# Altium integrated library TI_Logic_Power_Logic.IntLib: 26 symbols
Pins are listed as number, name and electrical type; pins without a type are passive.

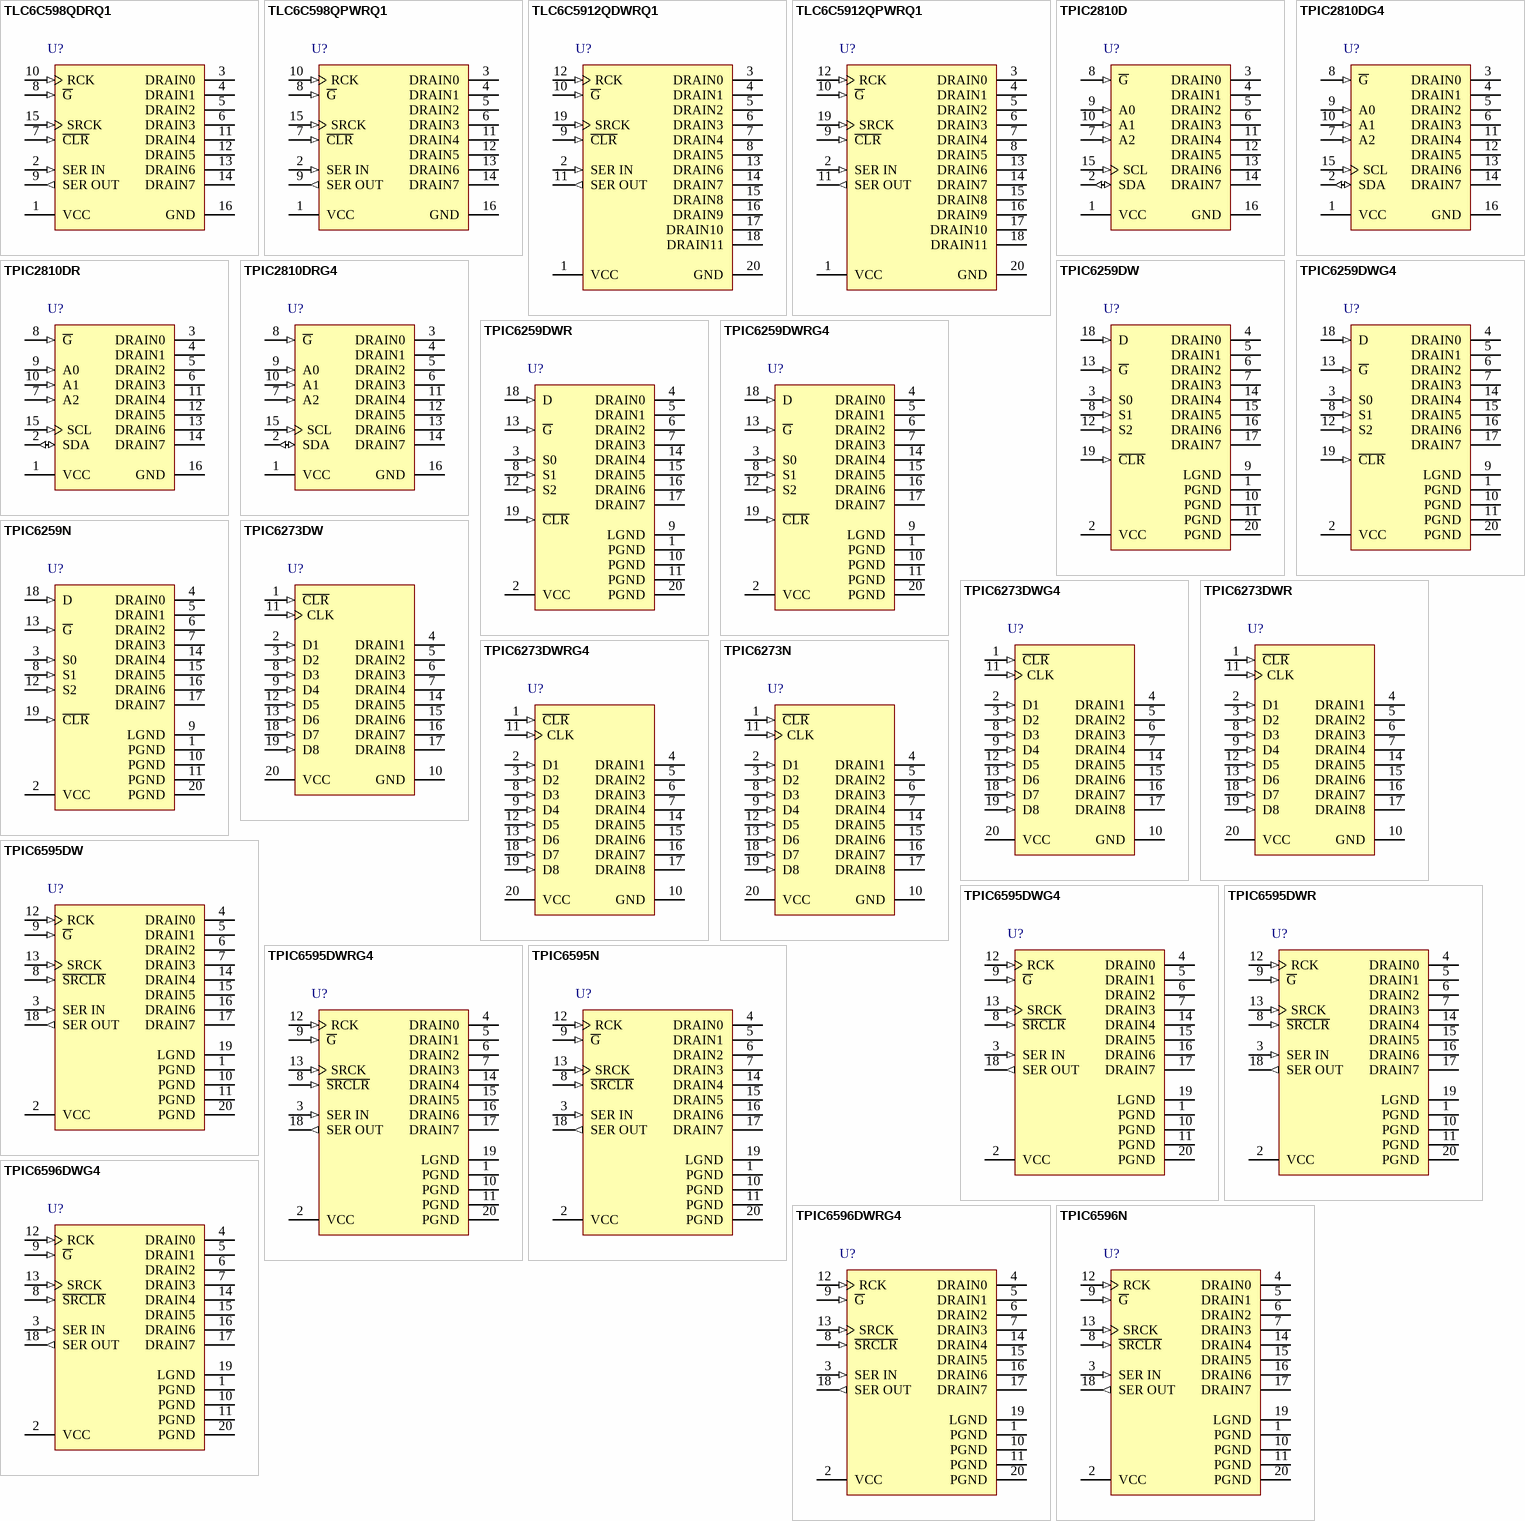
[diagram p0: symbols TLC6C598QDRQ1 to TPIC6596N]

## TLC6C598QDRQ1
designator U?
Automotive Power Logic 8-Bit Shift Register LED Driver, D0016A, LARGE T&R; Generic Part Number: TLC6C598-Q1; Manufacturer: Texas Instruments; PartNumber: TLC6C598QDRQ1; ICC(uA): 88; rDS(on)(Ohms): 7.4; tPLH(ns): 218; VDS(Max)(V): 40; IO(CONT)(A): 0.05; DatasheetVersion: SLIS142B; PackageReference: D0016A; Supplier 1: Mouser; Supplier Part Number 1: 595-TLC6C598QDRQ1; Supplier 2: Digi-Key; Supplier Part Number 2: 296-40592-2-ND; Supplier 3: Digi-Key; Supplier Part Number 3: 296-40592-1-ND; Supplier 4: Digi-Key; Supplier Part Number 4: 296-40592-6-ND; Operating Temperature Range(C): -40 to 125; Rating: Automotive; ComponentLink1Description: Manufacturer URL; ComponentLink1URL: http://www.ti.com/; ComponentLink2Description: Datasheet; ComponentLink2URL: http://www.ti.com/lit/ds/symlink/tlc6c598-q1.pdf
footprint D0016A_N (SOIC, 16-Leads, Body 10x4mm, Pitch 1.27mm, IPC Medium Density)
footprint D0016A_M (SOIC, 16-Leads, Body 10x4mm, Pitch 1.27mm, IPC Low Density)
footprint D0016A_L (SOIC, 16-Leads, Body 10x4mm, Pitch 1.27mm, IPC High Density)
pins: 1 VCC (power) "Power supply", 2 SER IN (in) "Serial data input", 3 DRAIN0 (oc) "Open-drain output", 4 DRAIN1 (oc) "Open-drain output", 5 DRAIN2 (oc) "Open-drain output", 6 DRAIN3 (oc) "Open-drain output", 7 ~{CLR} (in) "Shift register clear, active-low", 8 ~{G} (in) "Output enable, active-low", 9 SER OUT (out) "Serial data output", 10 RCK (in) "Register clock", 11 DRAIN4 (oc) "Open-drain output", 12 DRAIN5 (oc) "Open-drain output", 13 DRAIN6 (oc) "Open-drain output", 14 DRAIN7 (oc) "Open-drain output", 15 SRCK (in) "Shift register clock", 16 GND (power) "Power ground"

## TLC6C598QPWRQ1
designator U?
Automotive Power Logic 8-Bit Shift Register LED Driver, PW0016A, LARGE T&R; Generic Part Number: TLC6C598-Q1; Manufacturer: Texas Instruments; PartNumber: TLC6C598QPWRQ1; ICC(uA): 88; rDS(on)(Ohms): 7.4; tPLH(ns): 218; VDS(Max)(V): 40; IO(CONT)(A): 0.05; DatasheetVersion: SLIS142B; PackageReference: PW0016A; Supplier 1: Mouser; Supplier Part Number 1: 595-TLC6C598QPWRQ1; Supplier 2: Digi-Key; Supplier Part Number 2: 296-36199-2-ND; Supplier 3: Digi-Key; Supplier Part Number 3: 296-36199-1-ND; Supplier 4: Digi-Key; Supplier Part Number 4: 296-36199-6-ND; Operating Temperature Range(C): -40 to 125; Rating: Automotive; ComponentLink1Description: Manufacturer URL; ComponentLink1URL: http://www.ti.com/; ComponentLink2Description: Datasheet; ComponentLink2URL: http://www.ti.com/lit/ds/symlink/tlc6c598-q1.pdf
footprint PW0016A_N (SOP, 16-Leads, Body 5.1x4.5mm, Pitch 0.65mm, IPC Medium Density)
footprint PW0016A_M (SOP, 16-Leads, Body 5.1x4.5mm, Pitch 0.65mm, IPC Low Density)
footprint PW0016A_L (SOP, 16-Leads, Body 5.1x4.5mm, Pitch 0.65mm, IPC High Density)
pins: 1 VCC (power) "Power supply", 2 SER IN (in) "Serial data input", 3 DRAIN0 (oc) "Open-drain output", 4 DRAIN1 (oc) "Open-drain output", 5 DRAIN2 (oc) "Open-drain output", 6 DRAIN3 (oc) "Open-drain output", 7 ~{CLR} (in) "Shift register clear, active-low", 8 ~{G} (in) "Output enable, active-low", 9 SER OUT (out) "Serial data output", 10 RCK (in) "Register clock", 11 DRAIN4 (oc) "Open-drain output", 12 DRAIN5 (oc) "Open-drain output", 13 DRAIN6 (oc) "Open-drain output", 14 DRAIN7 (oc) "Open-drain output", 15 SRCK (in) "Shift register clock", 16 GND (power) "Power ground"

## TLC6C5912QDWRQ1
designator U?
Automotive Power Logic 12-Bit Shift Register LED Driver, DW0020A, LARGE T&R; Generic Part Number: TLC6C5912-Q1; Manufacturer: Texas Instruments; PartNumber: TLC6C5912QDWRQ1; ICC(uA): 130; rDS(on)(Ohms): 7.4; tPLH(ns): 210; VDS(Max)(V): 40; IO(CONT)(A): 0.05; DatasheetVersion: SLIS141A; PackageReference: DW0020A; Supplier 1: Mouser; Supplier Part Number 1: 595-TLC6C5912QDWRQ1; Supplier 2: Digi-Key; Supplier Part Number 2: 296-40591-2-ND; Supplier 3: Digi-Key; Supplier Part Number 3: 296-40591-1-ND; Supplier 4: Digi-Key; Supplier Part Number 4: 296-40591-6-ND; Operating Temperature Range(C): -40 to 125; Rating: Automotive; ComponentLink1Description: Manufacturer URL; ComponentLink1URL: http://www.ti.com/; ComponentLink2Description: Datasheet; ComponentLink2URL: http://www.ti.com/lit/ds/symlink/tlc6c5912-q1.pdf
footprint DW0020A_N (SOIC, 20-Leads, Body 13x7.6mm, Pitch 1.27mm, IPC Medium Density)
footprint DW0020A_M (SOIC, 20-Leads, Body 13x7.6mm, Pitch 1.27mm, IPC Low Density)
footprint DW0020A_L (SOIC, 20-Leads, Body 13x7.6mm, Pitch 1.27mm, IPC High Density)
pins: 1 VCC (power) "Power supply", 2 SER IN (in) "Serial-data input", 3 DRAIN0 (oc) "Open-drain output", 4 DRAIN1 (oc) "Open-drain output", 5 DRAIN2 (oc) "Open-drain output", 6 DRAIN3 (oc) "Open-drain output", 7 DRAIN4 (oc) "Open-drain output", 8 DRAIN5 (oc) "Open-drain output", 9 ~{CLR} (in) "Shift register clear, active-low", 10 ~{G} (in) "Output enable, active-low", 11 SER OUT (out) "Serial-data output", 12 RCK (in) "Register clock", 13 DRAIN6 (oc) "Open-drain output", 14 DRAIN7 (oc) "Open-drain output", 15 DRAIN8 (oc) "Open-drain output", 16 DRAIN9 (oc) "Open-drain output", 17 DRAIN10 (oc) "Open-drain output", 18 DRAIN11 (oc) "Open-drain output", 19 SRCK (in) "Shift-register clock", 20 GND (power) "Power ground"

## TLC6C5912QPWRQ1
designator U?
Automotive Power Logic 12-Bit Shift Register LED Driver, PW0020A, LARGE T&R; Generic Part Number: TLC6C5912-Q1; Manufacturer: Texas Instruments; PartNumber: TLC6C5912QPWRQ1; ICC(uA): 130; rDS(on)(Ohms): 7.4; tPLH(ns): 210; VDS(Max)(V): 40; IO(CONT)(A): 0.05; DatasheetVersion: SLIS141A; PackageReference: PW0020A; Supplier 1: Mouser; Supplier Part Number 1: 595-TLC6C5912QPWRQ1; Supplier 2: Digi-Key; Supplier Part Number 2: 296-39249-2-ND; Supplier 3: Digi-Key; Supplier Part Number 3: 296-39249-1-ND; Supplier 4: Digi-Key; Supplier Part Number 4: 296-39249-6-ND; Operating Temperature Range(C): -40 to 125; Rating: Automotive; ComponentLink1Description: Manufacturer URL; ComponentLink1URL: http://www.ti.com/; ComponentLink2Description: Datasheet; ComponentLink2URL: http://www.ti.com/lit/ds/symlink/tlc6c5912-q1.pdf
footprint PW0020A_N (SOP, 20-Leads, Body 6.6x4.5mm, Pitch 0.65mm, IPC Medium Density)
footprint PW0020A_M (SOP, 20-Leads, Body 6.6x4.5mm, Pitch 0.65mm, IPC Low Density)
footprint PW0020A_L (SOP, 20-Leads, Body 6.6x4.5mm, Pitch 0.65mm, IPC High Density)
pins: 1 VCC (power) "Power supply", 2 SER IN (in) "Serial-data input", 3 DRAIN0 (oc) "Open-drain output", 4 DRAIN1 (oc) "Open-drain output", 5 DRAIN2 (oc) "Open-drain output", 6 DRAIN3 (oc) "Open-drain output", 7 DRAIN4 (oc) "Open-drain output", 8 DRAIN5 (oc) "Open-drain output", 9 ~{CLR} (in) "Shift register clear, active-low", 10 ~{G} (in) "Output enable, active-low", 11 SER OUT (out) "Serial-data output", 12 RCK (in) "Register clock", 13 DRAIN6 (oc) "Open-drain output", 14 DRAIN7 (oc) "Open-drain output", 15 DRAIN8 (oc) "Open-drain output", 16 DRAIN9 (oc) "Open-drain output", 17 DRAIN10 (oc) "Open-drain output", 18 DRAIN11 (oc) "Open-drain output", 19 SRCK (in) "Shift-register clock", 20 GND (power) "Power ground"

## TPIC2810D
designator U?
8-Bit LED Driver with I2C Interface, D0016A, TUBE; Generic Part Number: TPIC2810; Manufacturer: Texas Instruments; PartNumber: TPIC2810D; ICC(uA): 620; IO(PEAK)(A): 0.21; rDS(on)(Ohms): 5; tPLH(ns): 1150; VDS(Max)(V): 40; IO(CONT)(A): 0.1; Rating: Catalog; Priority (type 2): 1; DatasheetVersion: SLIS109A; PackageReference: D0016A; Supplier 1: Mouser; Supplier Part Number 1: 595-TPIC2810D; Supplier 2: Digi-Key; Supplier Part Number 2: 296-13746-5-ND; Operating Temperature Range(C): -40 to 125; ComponentLink1Description: Manufacturer URL; ComponentLink1URL: http://www.ti.com/; ComponentLink2Description: Datasheet; ComponentLink2URL: http://www.ti.com/lit/ds/symlink/tpic2810.pdf
footprint D0016A_N (SOIC, 16-Leads, Body 10x4mm, Pitch 1.27mm, IPC Medium Density)
footprint D0016A_M (SOIC, 16-Leads, Body 10x4mm, Pitch 1.27mm, IPC Low Density)
footprint D0016A_L (SOIC, 16-Leads, Body 10x4mm, Pitch 1.27mm, IPC High Density)
pins: 1 VCC (power) "Supply voltage input", 2 SDA (io) "Open drain, bidirectional serial data terminal", 3 DRAIN0 (oc) "FET drain outputs. The DRAIN terminals are low-side switches for resistive loads.", 4 DRAIN1 (oc) "FET drain outputs. The DRAIN terminals are low-side switches for resistive loads.", 5 DRAIN2 (oc) "FET drain outputs. The DRAIN terminals are low-side switches for resistive loads.", 6 DRAIN3 (oc) "FET drain outputs. The DRAIN terminals are low-side switches for resistive loads.", 7 A2 (in) "Address input 2", 8 ~{G} (in) "Output enable. Active low input enables output FETs when low and disables output FETs when high.", 9 A0 (in) "Address input 0", 10 A1 (in) "Address input 1", 11 DRAIN4 (oc) "FET drain outputs. The DRAIN terminals are low-side switches for resistive loads.", 12 DRAIN5 (oc) "FET drain outputs. The DRAIN terminals are low-side switches for resistive loads.", 13 DRAIN6 (oc) "FET drain outputs. The DRAIN terminals are low-side switches for resistive loads.", 14 DRAIN7 (oc) "FET drain outputs. The DRAIN terminals are low-side switches for resistive loads.", 15 SCL (in) "Serial clock", 16 GND (power) "Ground"

## TPIC2810DG4
designator U?
8-Bit LED Driver with I2C Interface, D0016A, TUBE; Generic Part Number: TPIC2810; Manufacturer: Texas Instruments; PartNumber: TPIC2810DG4; ICC(uA): 620; IO(PEAK)(A): 0.21; rDS(on)(Ohms): 5; tPLH(ns): 1150; VDS(Max)(V): 40; IO(CONT)(A): 0.1; Rating: Catalog; Priority (type 2): 1; DatasheetVersion: SLIS109A; PackageReference: D0016A; Supplier 1: Mouser; Supplier Part Number 1: 595-TPIC2810DG4; Supplier 2: Digi-Key; Supplier Part Number 2: 296-21426-5-ND; Operating Temperature Range(C): -40 to 125; ComponentLink1Description: Manufacturer URL; ComponentLink1URL: http://www.ti.com/; ComponentLink2Description: Datasheet; ComponentLink2URL: http://www.ti.com/lit/ds/symlink/tpic2810.pdf
footprint D0016A_N (SOIC, 16-Leads, Body 10x4mm, Pitch 1.27mm, IPC Medium Density)
footprint D0016A_M (SOIC, 16-Leads, Body 10x4mm, Pitch 1.27mm, IPC Low Density)
footprint D0016A_L (SOIC, 16-Leads, Body 10x4mm, Pitch 1.27mm, IPC High Density)
pins: 1 VCC (power) "Supply voltage input", 2 SDA (io) "Open drain, bidirectional serial data terminal", 3 DRAIN0 (oc) "FET drain outputs. The DRAIN terminals are low-side switches for resistive loads.", 4 DRAIN1 (oc) "FET drain outputs. The DRAIN terminals are low-side switches for resistive loads.", 5 DRAIN2 (oc) "FET drain outputs. The DRAIN terminals are low-side switches for resistive loads.", 6 DRAIN3 (oc) "FET drain outputs. The DRAIN terminals are low-side switches for resistive loads.", 7 A2 (in) "Address input 2", 8 ~{G} (in) "Output enable. Active low input enables output FETs when low and disables output FETs when high.", 9 A0 (in) "Address input 0", 10 A1 (in) "Address input 1", 11 DRAIN4 (oc) "FET drain outputs. The DRAIN terminals are low-side switches for resistive loads.", 12 DRAIN5 (oc) "FET drain outputs. The DRAIN terminals are low-side switches for resistive loads.", 13 DRAIN6 (oc) "FET drain outputs. The DRAIN terminals are low-side switches for resistive loads.", 14 DRAIN7 (oc) "FET drain outputs. The DRAIN terminals are low-side switches for resistive loads.", 15 SCL (in) "Serial clock", 16 GND (power) "Ground"

## TPIC2810DR
designator U?
8-Bit LED Driver with I2C Interface, D0016A, LARGE T&R; Generic Part Number: TPIC2810; Manufacturer: Texas Instruments; PartNumber: TPIC2810DR; ICC(uA): 620; IO(PEAK)(A): 0.21; rDS(on)(Ohms): 5; tPLH(ns): 1150; VDS(Max)(V): 40; IO(CONT)(A): 0.1; Rating: Catalog; Priority (type 2): 1; DatasheetVersion: SLIS109A; PackageReference: D0016A; Supplier 1: Mouser; Supplier Part Number 1: 595-TPIC2810DR; Supplier 2: Digi-Key; Supplier Part Number 2: TPIC2810DR-ND; Operating Temperature Range(C): -40 to 125; ComponentLink1Description: Manufacturer URL; ComponentLink1URL: http://www.ti.com/; ComponentLink2Description: Datasheet; ComponentLink2URL: http://www.ti.com/lit/ds/symlink/tpic2810.pdf
footprint D0016A_N (SOIC, 16-Leads, Body 10x4mm, Pitch 1.27mm, IPC Medium Density)
footprint D0016A_M (SOIC, 16-Leads, Body 10x4mm, Pitch 1.27mm, IPC Low Density)
footprint D0016A_L (SOIC, 16-Leads, Body 10x4mm, Pitch 1.27mm, IPC High Density)
pins: 1 VCC (power) "Supply voltage input", 2 SDA (io) "Open drain, bidirectional serial data terminal", 3 DRAIN0 (oc) "FET drain outputs. The DRAIN terminals are low-side switches for resistive loads.", 4 DRAIN1 (oc) "FET drain outputs. The DRAIN terminals are low-side switches for resistive loads.", 5 DRAIN2 (oc) "FET drain outputs. The DRAIN terminals are low-side switches for resistive loads.", 6 DRAIN3 (oc) "FET drain outputs. The DRAIN terminals are low-side switches for resistive loads.", 7 A2 (in) "Address input 2", 8 ~{G} (in) "Output enable. Active low input enables output FETs when low and disables output FETs when high.", 9 A0 (in) "Address input 0", 10 A1 (in) "Address input 1", 11 DRAIN4 (oc) "FET drain outputs. The DRAIN terminals are low-side switches for resistive loads.", 12 DRAIN5 (oc) "FET drain outputs. The DRAIN terminals are low-side switches for resistive loads.", 13 DRAIN6 (oc) "FET drain outputs. The DRAIN terminals are low-side switches for resistive loads.", 14 DRAIN7 (oc) "FET drain outputs. The DRAIN terminals are low-side switches for resistive loads.", 15 SCL (in) "Serial clock", 16 GND (power) "Ground"

## TPIC2810DRG4
designator U?
8-Bit LED Driver with I2C Interface, D0016A, LARGE T&R; Generic Part Number: TPIC2810; Manufacturer: Texas Instruments; PartNumber: TPIC2810DRG4; ICC(uA): 620; IO(PEAK)(A): 0.21; rDS(on)(Ohms): 5; tPLH(ns): 1150; VDS(Max)(V): 40; IO(CONT)(A): 0.1; Rating: Catalog; Priority (type 2): 1; DatasheetVersion: SLIS109A; PackageReference: D0016A; Supplier 1: Mouser; Supplier Part Number 1: 595-TPIC2810DRG4; Supplier 2: Digi-Key; Supplier Part Number 2: TPIC2810DRG4-ND; Operating Temperature Range(C): -40 to 125; ComponentLink1Description: Manufacturer URL; ComponentLink1URL: http://www.ti.com/; ComponentLink2Description: Datasheet; ComponentLink2URL: http://www.ti.com/lit/ds/symlink/tpic2810.pdf
footprint D0016A_N (SOIC, 16-Leads, Body 10x4mm, Pitch 1.27mm, IPC Medium Density)
footprint D0016A_M (SOIC, 16-Leads, Body 10x4mm, Pitch 1.27mm, IPC Low Density)
footprint D0016A_L (SOIC, 16-Leads, Body 10x4mm, Pitch 1.27mm, IPC High Density)
pins: 1 VCC (power) "Supply voltage input", 2 SDA (io) "Open drain, bidirectional serial data terminal", 3 DRAIN0 (oc) "FET drain outputs. The DRAIN terminals are low-side switches for resistive loads.", 4 DRAIN1 (oc) "FET drain outputs. The DRAIN terminals are low-side switches for resistive loads.", 5 DRAIN2 (oc) "FET drain outputs. The DRAIN terminals are low-side switches for resistive loads.", 6 DRAIN3 (oc) "FET drain outputs. The DRAIN terminals are low-side switches for resistive loads.", 7 A2 (in) "Address input 2", 8 ~{G} (in) "Output enable. Active low input enables output FETs when low and disables output FETs when high.", 9 A0 (in) "Address input 0", 10 A1 (in) "Address input 1", 11 DRAIN4 (oc) "FET drain outputs. The DRAIN terminals are low-side switches for resistive loads.", 12 DRAIN5 (oc) "FET drain outputs. The DRAIN terminals are low-side switches for resistive loads.", 13 DRAIN6 (oc) "FET drain outputs. The DRAIN terminals are low-side switches for resistive loads.", 14 DRAIN7 (oc) "FET drain outputs. The DRAIN terminals are low-side switches for resistive loads.", 15 SCL (in) "Serial clock", 16 GND (power) "Ground"

## TPIC6259DW
designator U?
8-Bit Addressable Latch, DW0020A, TUBE; Generic Part Number: TPIC6259; Manufacturer: Texas Instruments; PartNumber: TPIC6259DW; Output Voltage(Max)(V): 45; Peak Output Current(mA): 750; Delay Time(Typ)(ns): 625; Output Clamp Diodes: Yes; Input Compatibility: CMOS; ICC(uA): 15; IO(PEAK)(A): 0.75; rDS(on)(Ohms): 1.3; EAS(mJ): 75; Drivers Per Package: 8; IO(CONT)(A): 0.25; Rating: Catalog; Priority (type 2): 1; DatasheetVersion: SLIS009A; PackageReference: DW0020A; Supplier 1: Mouser; Supplier Part Number 1: 595-TPIC6259DW; Supplier 2: Digi-Key; Supplier Part Number 2: 296-9000-5-ND; Switching Voltage(Max)(V): 45; tPLH(ns): 625; VDS(Max)(V): 45; Operating Temperature Range(C): -40 to 125; ComponentLink1Description: Manufacturer URL; ComponentLink1URL: http://www.ti.com/; ComponentLink2Description: Datasheet; ComponentLink2URL: http://www.ti.com/lit/ds/symlink/tpic6259.pdf
footprint DW0020A_N (SOIC, 20-Leads, Body 13x7.6mm, Pitch 1.27mm, IPC Medium Density)
footprint DW0020A_M (SOIC, 20-Leads, Body 13x7.6mm, Pitch 1.27mm, IPC Low Density)
footprint DW0020A_L (SOIC, 20-Leads, Body 13x7.6mm, Pitch 1.27mm, IPC High Density)
pins: 1 PGND (power), 2 VCC (power), 3 S0 (in), 4 DRAIN0 (oc), 5 DRAIN1 (oc), 6 DRAIN2 (oc), 7 DRAIN3 (oc), 8 S1 (in), 9 LGND (power), 10 PGND (power), 11 PGND (power), 12 S2 (in), 13 ~{G} (in), 14 DRAIN4 (oc), 15 DRAIN5 (oc), 16 DRAIN6 (oc), 17 DRAIN7 (oc), 18 D (in), 19 ~{CLR} (in), 20 PGND (power)

## TPIC6259DWG4
designator U?
8-Bit Addressable Latch, DW0020A, TUBE; Generic Part Number: TPIC6259; Manufacturer: Texas Instruments; PartNumber: TPIC6259DWG4; Output Voltage(Max)(V): 45; Peak Output Current(mA): 750; Delay Time(Typ)(ns): 625; Output Clamp Diodes: Yes; Input Compatibility: CMOS; ICC(uA): 15; IO(PEAK)(A): 0.75; rDS(on)(Ohms): 1.3; EAS(mJ): 75; Drivers Per Package: 8; IO(CONT)(A): 0.25; Rating: Catalog; Priority (type 2): 1; DatasheetVersion: SLIS009A; PackageReference: DW0020A; Supplier 1: Mouser; Supplier Part Number 1: 595-TPIC6259DWG4; Supplier 2: Digi-Key; Supplier Part Number 2: 296-26891-5-ND; Switching Voltage(Max)(V): 45; tPLH(ns): 625; VDS(Max)(V): 45; Operating Temperature Range(C): -40 to 125; ComponentLink1Description: Manufacturer URL; ComponentLink1URL: http://www.ti.com/; ComponentLink2Description: Datasheet; ComponentLink2URL: http://www.ti.com/lit/ds/symlink/tpic6259.pdf
footprint DW0020A_N (SOIC, 20-Leads, Body 13x7.6mm, Pitch 1.27mm, IPC Medium Density)
footprint DW0020A_M (SOIC, 20-Leads, Body 13x7.6mm, Pitch 1.27mm, IPC Low Density)
footprint DW0020A_L (SOIC, 20-Leads, Body 13x7.6mm, Pitch 1.27mm, IPC High Density)
pins: 1 PGND (power), 2 VCC (power), 3 S0 (in), 4 DRAIN0 (oc), 5 DRAIN1 (oc), 6 DRAIN2 (oc), 7 DRAIN3 (oc), 8 S1 (in), 9 LGND (power), 10 PGND (power), 11 PGND (power), 12 S2 (in), 13 ~{G} (in), 14 DRAIN4 (oc), 15 DRAIN5 (oc), 16 DRAIN6 (oc), 17 DRAIN7 (oc), 18 D (in), 19 ~{CLR} (in), 20 PGND (power)

## TPIC6259DWR
designator U?
8-Bit Addressable Latch, DW0020A, LARGE T&R; Generic Part Number: TPIC6259; Manufacturer: Texas Instruments; PartNumber: TPIC6259DWR; Output Voltage(Max)(V): 45; Peak Output Current(mA): 750; Delay Time(Typ)(ns): 625; Output Clamp Diodes: Yes; Input Compatibility: CMOS; ICC(uA): 15; IO(PEAK)(A): 0.75; rDS(on)(Ohms): 1.3; EAS(mJ): 75; Drivers Per Package: 8; IO(CONT)(A): 0.25; Rating: Catalog; Priority (type 2): 1; DatasheetVersion: SLIS009A; PackageReference: DW0020A; Supplier 1: Mouser; Supplier Part Number 1: 595-TPIC6259DWR; Supplier 2: Digi-Key; Supplier Part Number 2: TPIC6259DWR-ND; Switching Voltage(Max)(V): 45; tPLH(ns): 625; VDS(Max)(V): 45; Operating Temperature Range(C): -40 to 125; ComponentLink1Description: Manufacturer URL; ComponentLink1URL: http://www.ti.com/; ComponentLink2Description: Datasheet; ComponentLink2URL: http://www.ti.com/lit/ds/symlink/tpic6259.pdf
footprint DW0020A_N (SOIC, 20-Leads, Body 13x7.6mm, Pitch 1.27mm, IPC Medium Density)
footprint DW0020A_M (SOIC, 20-Leads, Body 13x7.6mm, Pitch 1.27mm, IPC Low Density)
footprint DW0020A_L (SOIC, 20-Leads, Body 13x7.6mm, Pitch 1.27mm, IPC High Density)
pins: 1 PGND (power), 2 VCC (power), 3 S0 (in), 4 DRAIN0 (oc), 5 DRAIN1 (oc), 6 DRAIN2 (oc), 7 DRAIN3 (oc), 8 S1 (in), 9 LGND (power), 10 PGND (power), 11 PGND (power), 12 S2 (in), 13 ~{G} (in), 14 DRAIN4 (oc), 15 DRAIN5 (oc), 16 DRAIN6 (oc), 17 DRAIN7 (oc), 18 D (in), 19 ~{CLR} (in), 20 PGND (power)

## TPIC6259DWRG4
designator U?
8-Bit Addressable Latch, DW0020A, LARGE T&R; Generic Part Number: TPIC6259; Manufacturer: Texas Instruments; PartNumber: TPIC6259DWRG4; Output Voltage(Max)(V): 45; Peak Output Current(mA): 750; Delay Time(Typ)(ns): 625; Output Clamp Diodes: Yes; Input Compatibility: CMOS; ICC(uA): 15; IO(PEAK)(A): 0.75; rDS(on)(Ohms): 1.3; EAS(mJ): 75; Drivers Per Package: 8; IO(CONT)(A): 0.25; Rating: Catalog; Priority (type 2): 1; DatasheetVersion: SLIS009A; PackageReference: DW0020A; Supplier 1: Mouser; Supplier Part Number 1: 595-TPIC6259DWRG4; Supplier 2: Digi-Key; Supplier Part Number 2: TPIC6259DWRG4-ND; Switching Voltage(Max)(V): 45; tPLH(ns): 625; VDS(Max)(V): 45; Operating Temperature Range(C): -40 to 125; ComponentLink1Description: Manufacturer URL; ComponentLink1URL: http://www.ti.com/; ComponentLink2Description: Datasheet; ComponentLink2URL: http://www.ti.com/lit/ds/symlink/tpic6259.pdf
footprint DW0020A_N (SOIC, 20-Leads, Body 13x7.6mm, Pitch 1.27mm, IPC Medium Density)
footprint DW0020A_M (SOIC, 20-Leads, Body 13x7.6mm, Pitch 1.27mm, IPC Low Density)
footprint DW0020A_L (SOIC, 20-Leads, Body 13x7.6mm, Pitch 1.27mm, IPC High Density)
pins: 1 PGND (power), 2 VCC (power), 3 S0 (in), 4 DRAIN0 (oc), 5 DRAIN1 (oc), 6 DRAIN2 (oc), 7 DRAIN3 (oc), 8 S1 (in), 9 LGND (power), 10 PGND (power), 11 PGND (power), 12 S2 (in), 13 ~{G} (in), 14 DRAIN4 (oc), 15 DRAIN5 (oc), 16 DRAIN6 (oc), 17 DRAIN7 (oc), 18 D (in), 19 ~{CLR} (in), 20 PGND (power)

## TPIC6259N
designator U?
8-Bit Addressable Latch, N0020A, TUBE; Generic Part Number: TPIC6259; Manufacturer: Texas Instruments; PartNumber: TPIC6259N; Output Voltage(Max)(V): 45; Peak Output Current(mA): 750; Delay Time(Typ)(ns): 625; Output Clamp Diodes: Yes; Input Compatibility: CMOS; ICC(uA): 15; IO(PEAK)(A): 0.75; rDS(on)(Ohms): 1.3; EAS(mJ): 75; Drivers Per Package: 8; IO(CONT)(A): 0.25; Rating: Catalog; Priority (type 2): 1; DatasheetVersion: SLIS009A; PackageReference: N0020A; Supplier 1: Mouser; Supplier Part Number 1: 595-TPIC6259N; Supplier 2: Digi-Key; Supplier Part Number 2: 296-9001-5-ND; Switching Voltage(Max)(V): 45; tPLH(ns): 625; VDS(Max)(V): 45; Operating Temperature Range(C): -40 to 125; ComponentLink1Description: Manufacturer URL; ComponentLink1URL: http://www.ti.com/; ComponentLink2Description: Datasheet; ComponentLink2URL: http://www.ti.com/lit/ds/symlink/tpic6259.pdf
footprint N0020A (DIP, 20-Leads, Body 26.9x6.6mm, Pitch 2.54mm)
pins: 1 PGND (power), 2 VCC (power), 3 S0 (in), 4 DRAIN0 (oc), 5 DRAIN1 (oc), 6 DRAIN2 (oc), 7 DRAIN3 (oc), 8 S1 (in), 9 LGND (power), 10 PGND (power), 11 PGND (power), 12 S2 (in), 13 ~{G} (in), 14 DRAIN4 (oc), 15 DRAIN5 (oc), 16 DRAIN6 (oc), 17 DRAIN7 (oc), 18 D (in), 19 ~{CLR} (in), 20 PGND (power)

## TPIC6273DW
designator U?
Octal D-type Latch, DW0020A, TUBE; Generic Part Number: TPIC6273; Manufacturer: Texas Instruments; PartNumber: TPIC6273DW; Output Voltage(Max)(V): 45; Peak Output Current(mA): 750; Delay Time(Typ)(ns): 625; Output Clamp Diodes: Yes; Input Compatibility: CMOS; ICC(uA): 15; IO(PEAK)(A): 0.75; rDS(on)(Ohms): 1.3; EAS(mJ): 75; Drivers Per Package: 8; IO(CONT)(A): 0.25; Rating: Catalog; Priority (type 2): 1; DatasheetVersion: SLIS011A; PackageReference: DW0020A; Supplier 1: Mouser; Supplier Part Number 1: 595-TPIC6273DW; Supplier 2: Digi-Key; Supplier Part Number 2: 296-9002-5-ND; Switching Voltage(Max)(V): 45; tPLH(ns): 625; VDS(Max)(V): 45; Operating Temperature Range(C): -40 to 125; ComponentLink1Description: Manufacturer URL; ComponentLink1URL: http://www.ti.com/; ComponentLink2Description: Datasheet; ComponentLink2URL: http://www.ti.com/lit/ds/symlink/tpic6273.pdf
footprint DW0020A_N (SOIC, 20-Leads, Body 13x7.6mm, Pitch 1.27mm, IPC Medium Density)
footprint DW0020A_M (SOIC, 20-Leads, Body 13x7.6mm, Pitch 1.27mm, IPC Low Density)
footprint DW0020A_L (SOIC, 20-Leads, Body 13x7.6mm, Pitch 1.27mm, IPC High Density)
pins: 1 ~{CLR} (in), 2 D1 (in), 3 D2 (in), 4 DRAIN1 (oc), 5 DRAIN2 (oc), 6 DRAIN3 (oc), 7 DRAIN4 (oc), 8 D3 (in), 9 D4 (in), 10 GND (power), 11 CLK (in), 12 D5 (in), 13 D6 (in), 14 DRAIN5 (oc), 15 DRAIN6 (oc), 16 DRAIN7 (oc), 17 DRAIN8 (oc), 18 D7 (in), 19 D8 (in), 20 VCC (power)

## TPIC6273DWG4
designator U?
Octal D-type Latch, DW0020A, TUBE; Generic Part Number: TPIC6273; Manufacturer: Texas Instruments; PartNumber: TPIC6273DWG4; Output Voltage(Max)(V): 45; Peak Output Current(mA): 750; Delay Time(Typ)(ns): 625; Output Clamp Diodes: Yes; Input Compatibility: CMOS; ICC(uA): 15; IO(PEAK)(A): 0.75; rDS(on)(Ohms): 1.3; EAS(mJ): 75; Drivers Per Package: 8; IO(CONT)(A): 0.25; Rating: Catalog; Priority (type 2): 1; DatasheetVersion: SLIS011A; PackageReference: DW0020A; Supplier 1: Mouser; Supplier Part Number 1: 595-TPIC6273DWG4; Supplier 2: Digi-Key; Supplier Part Number 2: 296-26892-5-ND; Switching Voltage(Max)(V): 45; tPLH(ns): 625; VDS(Max)(V): 45; Operating Temperature Range(C): -40 to 125; ComponentLink1Description: Manufacturer URL; ComponentLink1URL: http://www.ti.com/; ComponentLink2Description: Datasheet; ComponentLink2URL: http://www.ti.com/lit/ds/symlink/tpic6273.pdf
footprint DW0020A_N (SOIC, 20-Leads, Body 13x7.6mm, Pitch 1.27mm, IPC Medium Density)
footprint DW0020A_M (SOIC, 20-Leads, Body 13x7.6mm, Pitch 1.27mm, IPC Low Density)
footprint DW0020A_L (SOIC, 20-Leads, Body 13x7.6mm, Pitch 1.27mm, IPC High Density)
pins: 1 ~{CLR} (in), 2 D1 (in), 3 D2 (in), 4 DRAIN1 (oc), 5 DRAIN2 (oc), 6 DRAIN3 (oc), 7 DRAIN4 (oc), 8 D3 (in), 9 D4 (in), 10 GND (power), 11 CLK (in), 12 D5 (in), 13 D6 (in), 14 DRAIN5 (oc), 15 DRAIN6 (oc), 16 DRAIN7 (oc), 17 DRAIN8 (oc), 18 D7 (in), 19 D8 (in), 20 VCC (power)

## TPIC6273DWR
designator U?
Octal D-type Latch, DW0020A, LARGE T&R; Generic Part Number: TPIC6273; Manufacturer: Texas Instruments; PartNumber: TPIC6273DWR; Output Voltage(Max)(V): 45; Peak Output Current(mA): 750; Delay Time(Typ)(ns): 625; Output Clamp Diodes: Yes; Input Compatibility: CMOS; ICC(uA): 15; IO(PEAK)(A): 0.75; rDS(on)(Ohms): 1.3; EAS(mJ): 75; Drivers Per Package: 8; IO(CONT)(A): 0.25; Rating: Catalog; Priority (type 2): 1; DatasheetVersion: SLIS011A; PackageReference: DW0020A; Supplier 1: Mouser; Supplier Part Number 1: 595-TPIC6273DWR; Supplier 2: Digi-Key; Supplier Part Number 2: TPIC6273DWRTR-ND; Supplier 3: Digi-Key; Supplier Part Number 3: TPIC6273DWRCT-ND; Supplier 4: Digi-Key; Supplier Part Number 4: TPIC6273DWRDKR-ND; Switching Voltage(Max)(V): 45; tPLH(ns): 625; VDS(Max)(V): 45; Operating Temperature Range(C): -40 to 125; ComponentLink1Description: Manufacturer URL; ComponentLink1URL: http://www.ti.com/; ComponentLink2Description: Datasheet; ComponentLink2URL: http://www.ti.com/lit/ds/symlink/tpic6273.pdf
footprint DW0020A_N (SOIC, 20-Leads, Body 13x7.6mm, Pitch 1.27mm, IPC Medium Density)
footprint DW0020A_M (SOIC, 20-Leads, Body 13x7.6mm, Pitch 1.27mm, IPC Low Density)
footprint DW0020A_L (SOIC, 20-Leads, Body 13x7.6mm, Pitch 1.27mm, IPC High Density)
pins: 1 ~{CLR} (in), 2 D1 (in), 3 D2 (in), 4 DRAIN1 (oc), 5 DRAIN2 (oc), 6 DRAIN3 (oc), 7 DRAIN4 (oc), 8 D3 (in), 9 D4 (in), 10 GND (power), 11 CLK (in), 12 D5 (in), 13 D6 (in), 14 DRAIN5 (oc), 15 DRAIN6 (oc), 16 DRAIN7 (oc), 17 DRAIN8 (oc), 18 D7 (in), 19 D8 (in), 20 VCC (power)

## TPIC6273DWRG4
designator U?
Octal D-type Latch, DW0020A, LARGE T&R; Generic Part Number: TPIC6273; Manufacturer: Texas Instruments; PartNumber: TPIC6273DWRG4; Output Voltage(Max)(V): 45; Peak Output Current(mA): 750; Delay Time(Typ)(ns): 625; Output Clamp Diodes: Yes; Input Compatibility: CMOS; ICC(uA): 15; IO(PEAK)(A): 0.75; rDS(on)(Ohms): 1.3; EAS(mJ): 75; Drivers Per Package: 8; IO(CONT)(A): 0.25; Rating: Catalog; Priority (type 2): 1; DatasheetVersion: SLIS011A; PackageReference: DW0020A; Supplier 1: Mouser; Supplier Part Number 1: 595-TPIC6273DWRG4; Supplier 2: Digi-Key; Supplier Part Number 2: TPIC6273DWRG4-ND; Switching Voltage(Max)(V): 45; tPLH(ns): 625; VDS(Max)(V): 45; Operating Temperature Range(C): -40 to 125; ComponentLink1Description: Manufacturer URL; ComponentLink1URL: http://www.ti.com/; ComponentLink2Description: Datasheet; ComponentLink2URL: http://www.ti.com/lit/ds/symlink/tpic6273.pdf
footprint DW0020A_N (SOIC, 20-Leads, Body 13x7.6mm, Pitch 1.27mm, IPC Medium Density)
footprint DW0020A_M (SOIC, 20-Leads, Body 13x7.6mm, Pitch 1.27mm, IPC Low Density)
footprint DW0020A_L (SOIC, 20-Leads, Body 13x7.6mm, Pitch 1.27mm, IPC High Density)
pins: 1 ~{CLR} (in), 2 D1 (in), 3 D2 (in), 4 DRAIN1 (oc), 5 DRAIN2 (oc), 6 DRAIN3 (oc), 7 DRAIN4 (oc), 8 D3 (in), 9 D4 (in), 10 GND (power), 11 CLK (in), 12 D5 (in), 13 D6 (in), 14 DRAIN5 (oc), 15 DRAIN6 (oc), 16 DRAIN7 (oc), 17 DRAIN8 (oc), 18 D7 (in), 19 D8 (in), 20 VCC (power)

## TPIC6273N
designator U?
Octal D-type Latch, N0020A, TUBE; Generic Part Number: TPIC6273; Manufacturer: Texas Instruments; PartNumber: TPIC6273N; Output Voltage(Max)(V): 45; Peak Output Current(mA): 750; Delay Time(Typ)(ns): 625; Output Clamp Diodes: Yes; Input Compatibility: CMOS; ICC(uA): 15; IO(PEAK)(A): 0.75; rDS(on)(Ohms): 1.3; EAS(mJ): 75; Drivers Per Package: 8; IO(CONT)(A): 0.25; Rating: Catalog; Priority (type 2): 1; DatasheetVersion: SLIS011A; PackageReference: N0020A; Supplier 1: Mouser; Supplier Part Number 1: 595-TPIC6273N; Supplier 2: Digi-Key; Supplier Part Number 2: 296-1953-5-ND; Switching Voltage(Max)(V): 45; tPLH(ns): 625; VDS(Max)(V): 45; Operating Temperature Range(C): -40 to 125; ComponentLink1Description: Manufacturer URL; ComponentLink1URL: http://www.ti.com/; ComponentLink2Description: Datasheet; ComponentLink2URL: http://www.ti.com/lit/ds/symlink/tpic6273.pdf
footprint N0020A (DIP, 20-Leads, Body 26.9x6.6mm, Pitch 2.54mm)
pins: 1 ~{CLR} (in), 2 D1 (in), 3 D2 (in), 4 DRAIN1 (oc), 5 DRAIN2 (oc), 6 DRAIN3 (oc), 7 DRAIN4 (oc), 8 D3 (in), 9 D4 (in), 10 GND (power), 11 CLK (in), 12 D5 (in), 13 D6 (in), 14 DRAIN5 (oc), 15 DRAIN6 (oc), 16 DRAIN7 (oc), 17 DRAIN8 (oc), 18 D7 (in), 19 D8 (in), 20 VCC (power)

## TPIC6595DW
designator U?
8-Bit Shift Register, DW0020A, TUBE; Generic Part Number: TPIC6595; Manufacturer: Texas Instruments; PartNumber: TPIC6595DW; Output Voltage(Max)(V): 45; Peak Output Current(mA): 750; Delay Time(Typ)(ns): 650; Output Clamp Diodes: Yes; Input Compatibility: CMOS; ICC(uA): 15; IO(PEAK)(A): 0.75; rDS(on)(Ohms): 1.3; EAS(mJ): 75; Drivers Per Package: 8; IO(CONT)(A): 0.25; Rating: Catalog; Priority (type 2): 1; DatasheetVersion: SLIS010B; PackageReference: DW0020A; Supplier 1: Mouser; Supplier Part Number 1: 595-TPIC6595DW; Supplier 2: Digi-Key; Supplier Part Number 2: 296-1349-5-ND; Switching Voltage(Max)(V): 45; tPLH(ns): 650; VDS(Max)(V): 45; Operating Temperature Range(C): -40 to 125; ComponentLink1Description: Manufacturer URL; ComponentLink1URL: http://www.ti.com/; ComponentLink2Description: Datasheet; ComponentLink2URL: http://www.ti.com/lit/ds/symlink/tpic6595.pdf
footprint DW0020A_N (SOIC, 20-Leads, Body 13x7.6mm, Pitch 1.27mm, IPC Medium Density)
footprint DW0020A_M (SOIC, 20-Leads, Body 13x7.6mm, Pitch 1.27mm, IPC Low Density)
footprint DW0020A_L (SOIC, 20-Leads, Body 13x7.6mm, Pitch 1.27mm, IPC High Density)
pins: 1 PGND (power), 2 VCC (power), 3 SER IN (in), 4 DRAIN0 (oc), 5 DRAIN1 (oc), 6 DRAIN2 (oc), 7 DRAIN3 (oc), 8 ~{SRCLR} (in), 9 ~{G} (in), 10 PGND (power), 11 PGND (power), 12 RCK (in), 13 SRCK (in), 14 DRAIN4 (oc), 15 DRAIN5 (oc), 16 DRAIN6 (oc), 17 DRAIN7 (oc), 18 SER OUT (out), 19 LGND (power), 20 PGND (power)

## TPIC6595DWG4
designator U?
8-Bit Shift Register, DW0020A, TUBE; Generic Part Number: TPIC6595; Manufacturer: Texas Instruments; PartNumber: TPIC6595DWG4; Output Voltage(Max)(V): 45; Peak Output Current(mA): 750; Delay Time(Typ)(ns): 650; Output Clamp Diodes: Yes; Input Compatibility: CMOS; ICC(uA): 15; IO(PEAK)(A): 0.75; rDS(on)(Ohms): 1.3; EAS(mJ): 75; Drivers Per Package: 8; IO(CONT)(A): 0.25; Rating: Catalog; Priority (type 2): 1; DatasheetVersion: SLIS010B; PackageReference: DW0020A; Supplier 1: Mouser; Supplier Part Number 1: 595-TPIC6595DWG4; Supplier 2: Digi-Key; Supplier Part Number 2: 296-26893-5-ND; Switching Voltage(Max)(V): 45; tPLH(ns): 650; VDS(Max)(V): 45; Operating Temperature Range(C): -40 to 125; ComponentLink1Description: Manufacturer URL; ComponentLink1URL: http://www.ti.com/; ComponentLink2Description: Datasheet; ComponentLink2URL: http://www.ti.com/lit/ds/symlink/tpic6595.pdf
footprint DW0020A_N (SOIC, 20-Leads, Body 13x7.6mm, Pitch 1.27mm, IPC Medium Density)
footprint DW0020A_M (SOIC, 20-Leads, Body 13x7.6mm, Pitch 1.27mm, IPC Low Density)
footprint DW0020A_L (SOIC, 20-Leads, Body 13x7.6mm, Pitch 1.27mm, IPC High Density)
pins: 1 PGND (power), 2 VCC (power), 3 SER IN (in), 4 DRAIN0 (oc), 5 DRAIN1 (oc), 6 DRAIN2 (oc), 7 DRAIN3 (oc), 8 ~{SRCLR} (in), 9 ~{G} (in), 10 PGND (power), 11 PGND (power), 12 RCK (in), 13 SRCK (in), 14 DRAIN4 (oc), 15 DRAIN5 (oc), 16 DRAIN6 (oc), 17 DRAIN7 (oc), 18 SER OUT (out), 19 LGND (power), 20 PGND (power)

## TPIC6595DWR
designator U?
8-Bit Shift Register, DW0020A, LARGE T&R; Generic Part Number: TPIC6595; Manufacturer: Texas Instruments; PartNumber: TPIC6595DWR; Output Voltage(Max)(V): 45; Peak Output Current(mA): 750; Delay Time(Typ)(ns): 650; Output Clamp Diodes: Yes; Input Compatibility: CMOS; ICC(uA): 15; IO(PEAK)(A): 0.75; rDS(on)(Ohms): 1.3; EAS(mJ): 75; Drivers Per Package: 8; IO(CONT)(A): 0.25; Rating: Catalog; Priority (type 2): 1; DatasheetVersion: SLIS010B; PackageReference: DW0020A; Supplier 1: Mouser; Supplier Part Number 1: 595-TPIC6595DWR; Supplier 2: Digi-Key; Supplier Part Number 2: 296-1349-2-ND; Supplier 3: Digi-Key; Supplier Part Number 3: 296-1349-1-ND; Supplier 4: Digi-Key; Supplier Part Number 4: 296-1349-6-ND; Switching Voltage(Max)(V): 45; tPLH(ns): 650; VDS(Max)(V): 45; Operating Temperature Range(C): -40 to 125; ComponentLink1Description: Manufacturer URL; ComponentLink1URL: http://www.ti.com/; ComponentLink2Description: Datasheet; ComponentLink2URL: http://www.ti.com/lit/ds/symlink/tpic6595.pdf
footprint DW0020A_N (SOIC, 20-Leads, Body 13x7.6mm, Pitch 1.27mm, IPC Medium Density)
footprint DW0020A_M (SOIC, 20-Leads, Body 13x7.6mm, Pitch 1.27mm, IPC Low Density)
footprint DW0020A_L (SOIC, 20-Leads, Body 13x7.6mm, Pitch 1.27mm, IPC High Density)
pins: 1 PGND (power), 2 VCC (power), 3 SER IN (in), 4 DRAIN0 (oc), 5 DRAIN1 (oc), 6 DRAIN2 (oc), 7 DRAIN3 (oc), 8 ~{SRCLR} (in), 9 ~{G} (in), 10 PGND (power), 11 PGND (power), 12 RCK (in), 13 SRCK (in), 14 DRAIN4 (oc), 15 DRAIN5 (oc), 16 DRAIN6 (oc), 17 DRAIN7 (oc), 18 SER OUT (out), 19 LGND (power), 20 PGND (power)

## TPIC6595DWRG4
designator U?
8-Bit Shift Register, DW0020A, LARGE T&R; Generic Part Number: TPIC6595; Manufacturer: Texas Instruments; PartNumber: TPIC6595DWRG4; Output Voltage(Max)(V): 45; Peak Output Current(mA): 750; Delay Time(Typ)(ns): 650; Output Clamp Diodes: Yes; Input Compatibility: CMOS; ICC(uA): 15; IO(PEAK)(A): 0.75; rDS(on)(Ohms): 1.3; EAS(mJ): 75; Drivers Per Package: 8; IO(CONT)(A): 0.25; Rating: Catalog; Priority (type 2): 1; DatasheetVersion: SLIS010B; PackageReference: DW0020A; Supplier 1: Mouser; Supplier Part Number 1: 595-TPIC6595DWRG4; Supplier 2: Digi-Key; Supplier Part Number 2: 296-41714-2-ND; Supplier 3: Digi-Key; Supplier Part Number 3: 296-41714-1-ND; Supplier 4: Digi-Key; Supplier Part Number 4: 296-41714-6-ND; Switching Voltage(Max)(V): 45; tPLH(ns): 650; VDS(Max)(V): 45; Operating Temperature Range(C): -40 to 125; ComponentLink1Description: Manufacturer URL; ComponentLink1URL: http://www.ti.com/; ComponentLink2Description: Datasheet; ComponentLink2URL: http://www.ti.com/lit/ds/symlink/tpic6595.pdf
footprint DW0020A_N (SOIC, 20-Leads, Body 13x7.6mm, Pitch 1.27mm, IPC Medium Density)
footprint DW0020A_M (SOIC, 20-Leads, Body 13x7.6mm, Pitch 1.27mm, IPC Low Density)
footprint DW0020A_L (SOIC, 20-Leads, Body 13x7.6mm, Pitch 1.27mm, IPC High Density)
pins: 1 PGND (power), 2 VCC (power), 3 SER IN (in), 4 DRAIN0 (oc), 5 DRAIN1 (oc), 6 DRAIN2 (oc), 7 DRAIN3 (oc), 8 ~{SRCLR} (in), 9 ~{G} (in), 10 PGND (power), 11 PGND (power), 12 RCK (in), 13 SRCK (in), 14 DRAIN4 (oc), 15 DRAIN5 (oc), 16 DRAIN6 (oc), 17 DRAIN7 (oc), 18 SER OUT (out), 19 LGND (power), 20 PGND (power)

## TPIC6595N
designator U?
8-Bit Shift Register, N0020A, TUBE; Generic Part Number: TPIC6595; Manufacturer: Texas Instruments; PartNumber: TPIC6595N; Output Voltage(Max)(V): 45; Peak Output Current(mA): 750; Delay Time(Typ)(ns): 650; Output Clamp Diodes: Yes; Input Compatibility: CMOS; ICC(uA): 15; IO(PEAK)(A): 0.75; rDS(on)(Ohms): 1.3; EAS(mJ): 75; Drivers Per Package: 8; IO(CONT)(A): 0.25; Rating: Catalog; Priority (type 2): 1; DatasheetVersion: SLIS010B; PackageReference: N0020A; Supplier 1: Mouser; Supplier Part Number 1: 595-TPIC6595N; Supplier 2: Digi-Key; Supplier Part Number 2: 296-1954-5-ND; Switching Voltage(Max)(V): 45; tPLH(ns): 650; VDS(Max)(V): 45; Operating Temperature Range(C): -40 to 125; ComponentLink1Description: Manufacturer URL; ComponentLink1URL: http://www.ti.com/; ComponentLink2Description: Datasheet; ComponentLink2URL: http://www.ti.com/lit/ds/symlink/tpic6595.pdf
footprint N0020A (DIP, 20-Leads, Body 26.9x6.6mm, Pitch 2.54mm)
pins: 1 PGND (power), 2 VCC (power), 3 SER IN (in), 4 DRAIN0 (oc), 5 DRAIN1 (oc), 6 DRAIN2 (oc), 7 DRAIN3 (oc), 8 ~{SRCLR} (in), 9 ~{G} (in), 10 PGND (power), 11 PGND (power), 12 RCK (in), 13 SRCK (in), 14 DRAIN4 (oc), 15 DRAIN5 (oc), 16 DRAIN6 (oc), 17 DRAIN7 (oc), 18 SER OUT (out), 19 LGND (power), 20 PGND (power)

## TPIC6596DWG4
designator U?
8-Bit Shift Register, DW0020A, TUBE; Generic Part Number: TPIC6596; Manufacturer: Texas Instruments; PartNumber: TPIC6596DWG4; Output Clamp Diodes: Yes; ICC(uA): 15; IO(PEAK)(A): 0.75; rDS(on)(Ohms): 1.3; EAS(mJ): 75; tPLH(ns): 650; VDS(Max)(V): 45; IO(CONT)(A): 0.25; Rating: Catalog; Priority (type 2): 1; DatasheetVersion: SLIS096A; PackageReference: DW0020A; Supplier 1: Mouser; Supplier Part Number 1: 595-TPIC6596DWG4; Supplier 2: Digi-Key; Supplier Part Number 2: 296-9003-5-ND; Operating Temperature Range(C): -40 to 125; ComponentLink1Description: Manufacturer URL; ComponentLink1URL: http://www.ti.com/; ComponentLink2Description: Datasheet; ComponentLink2URL: http://www.ti.com/lit/ds/symlink/tpic6596.pdf
footprint DW0020A_N (SOIC, 20-Leads, Body 13x7.6mm, Pitch 1.27mm, IPC Medium Density)
footprint DW0020A_M (SOIC, 20-Leads, Body 13x7.6mm, Pitch 1.27mm, IPC Low Density)
footprint DW0020A_L (SOIC, 20-Leads, Body 13x7.6mm, Pitch 1.27mm, IPC High Density)
pins: 1 PGND (power), 2 VCC (power), 3 SER IN (in), 4 DRAIN0 (oc), 5 DRAIN1 (oc), 6 DRAIN2 (oc), 7 DRAIN3 (oc), 8 ~{SRCLR} (in), 9 ~{G} (in), 10 PGND (power), 11 PGND (power), 12 RCK (in), 13 SRCK (in), 14 DRAIN4 (oc), 15 DRAIN5 (oc), 16 DRAIN6 (oc), 17 DRAIN7 (oc), 18 SER OUT (out), 19 LGND (power), 20 PGND (power)

## TPIC6596DWRG4
designator U?
8-Bit Shift Register, DW0020A, LARGE T&R; Generic Part Number: TPIC6596; Manufacturer: Texas Instruments; PartNumber: TPIC6596DWRG4; Output Clamp Diodes: Yes; ICC(uA): 15; IO(PEAK)(A): 0.75; rDS(on)(Ohms): 1.3; EAS(mJ): 75; tPLH(ns): 650; VDS(Max)(V): 45; IO(CONT)(A): 0.25; Rating: Catalog; Priority (type 2): 1; DatasheetVersion: SLIS096A; PackageReference: DW0020A; Supplier 1: Mouser; Supplier Part Number 1: 595-TPIC6596DWRG4; Supplier 2: Digi-Key; Supplier Part Number 2: TPIC6596DWRG4-ND; Operating Temperature Range(C): -40 to 125; ComponentLink1Description: Manufacturer URL; ComponentLink1URL: http://www.ti.com/; ComponentLink2Description: Datasheet; ComponentLink2URL: http://www.ti.com/lit/ds/symlink/tpic6596.pdf
footprint DW0020A_N (SOIC, 20-Leads, Body 13x7.6mm, Pitch 1.27mm, IPC Medium Density)
footprint DW0020A_M (SOIC, 20-Leads, Body 13x7.6mm, Pitch 1.27mm, IPC Low Density)
footprint DW0020A_L (SOIC, 20-Leads, Body 13x7.6mm, Pitch 1.27mm, IPC High Density)
pins: 1 PGND (power), 2 VCC (power), 3 SER IN (in), 4 DRAIN0 (oc), 5 DRAIN1 (oc), 6 DRAIN2 (oc), 7 DRAIN3 (oc), 8 ~{SRCLR} (in), 9 ~{G} (in), 10 PGND (power), 11 PGND (power), 12 RCK (in), 13 SRCK (in), 14 DRAIN4 (oc), 15 DRAIN5 (oc), 16 DRAIN6 (oc), 17 DRAIN7 (oc), 18 SER OUT (out), 19 LGND (power), 20 PGND (power)

## TPIC6596N
designator U?
8-Bit Shift Register, N0020A, TUBE; Generic Part Number: TPIC6596; Manufacturer: Texas Instruments; PartNumber: TPIC6596N; Output Clamp Diodes: Yes; ICC(uA): 15; IO(PEAK)(A): 0.75; rDS(on)(Ohms): 1.3; EAS(mJ): 75; tPLH(ns): 650; VDS(Max)(V): 45; IO(CONT)(A): 0.25; Rating: Catalog; Priority (type 2): 1; DatasheetVersion: SLIS096A; PackageReference: N0020A; Supplier 1: Mouser; Supplier Part Number 1: 595-TPIC6596N; Supplier 2: Digi-Key; Supplier Part Number 2: 296-34570-5-ND; Operating Temperature Range(C): -40 to 125; ComponentLink1Description: Manufacturer URL; ComponentLink1URL: http://www.ti.com/; ComponentLink2Description: Datasheet; ComponentLink2URL: http://www.ti.com/lit/ds/symlink/tpic6596.pdf
footprint N0020A (DIP, 20-Leads, Body 26.9x6.6mm, Pitch 2.54mm)
pins: 1 PGND (power), 2 VCC (power), 3 SER IN (in), 4 DRAIN0 (oc), 5 DRAIN1 (oc), 6 DRAIN2 (oc), 7 DRAIN3 (oc), 8 ~{SRCLR} (in), 9 ~{G} (in), 10 PGND (power), 11 PGND (power), 12 RCK (in), 13 SRCK (in), 14 DRAIN4 (oc), 15 DRAIN5 (oc), 16 DRAIN6 (oc), 17 DRAIN7 (oc), 18 SER OUT (out), 19 LGND (power), 20 PGND (power)